# Altium footprint library HEADER8X3.PcbLib: 1 footprints
Each footprint in its own frame and in the unit in brackets; x right, y up, seen from the top. Pads: shape width x height; smd on the part's side, far side on the other; paste and mask are expansions set on the pad; w line width, h text height; cw(c..) or ccw(c..) is an arc to the next point about the centre after c.
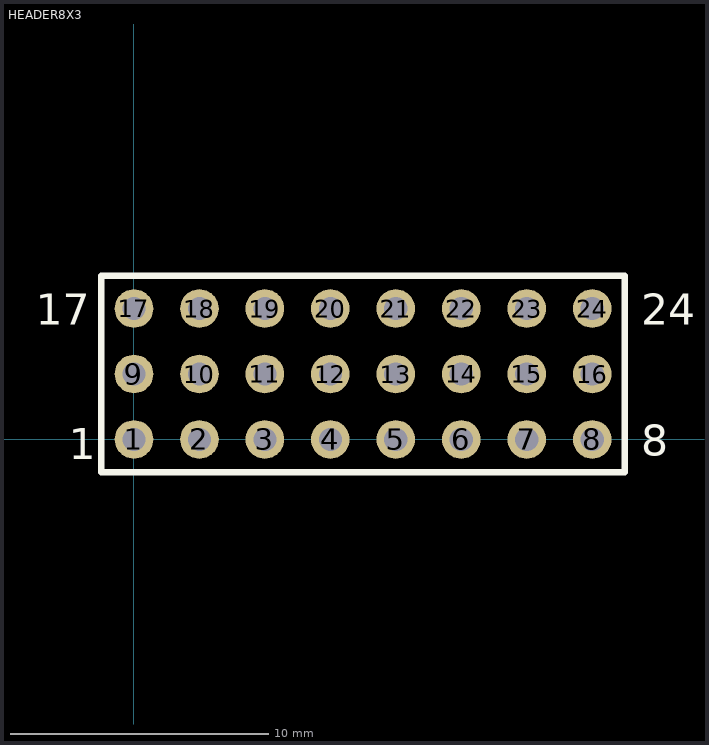
[diagram p0: the footprint, top view; thin cyan lines are the x and y axes]

## HEADER8X3 [mm]
height 10
pads (24):
  round 1.5 hole 0.9: 1(0,0) 2(2.54,0) 3(5.08,0) 4(7.62,0) 5(10.16,0) 6(12.7,0) 7(15.24,0) 8(17.78,0) 9(0,2.54) 10(2.54,2.54) 11(5.08,2.54) 12(7.62,2.54) 13(10.16,2.54) 14(12.7,2.54) 15(15.24,2.54) 16(17.78,2.54) 17(0,5.08) 18(2.54,5.08) 19(5.08,5.08) 20(7.62,5.08) 21(10.16,5.08) 22(12.7,5.08) 23(15.24,5.08) 24(17.78,5.08)
Top Overlay:
  lines w0.254: -1.27,-1.27 -1.27,6.35 8.89,6.35 19.05,6.35 19.05,-1.27 8.89,-1.27 -1.27,-1.27
  text "24" at 19.685,4.445 h1.2
  text "1" at -2.54,-0.762 h1.2
  text "8" at 19.685,-0.635 h1.2
  text "17" at -3.81,4.445 h1.2